# Altium schematic symbol library BNC_Sch.SchLib: 1 symbol
Pins are listed as number, name and electrical type; pins without a type are passive.

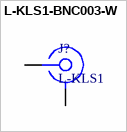
[diagram p0: symbol L-KLS1-BNC003-W]

## L-KLS1-BNC003-W
designator J?, comment L-KLS1
CONN.BNC JACK THT R/A 50 OHM WITH NUT/WASHER WHITE
footprint L-KLS1-BNC003-W
pins: 1, 2